# Altium integrated library CWX813-025.0M.IntLib: 1 symbol
Pins are listed as number, name and electrical type; pins without a type are passive.

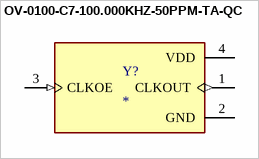
[diagram p0: symbol OV-0100-C7-100.000KHZ-50PPM-TA-QC]

## OV-0100-C7-100.000KHZ-50PPM-TA-QC
designator Y?
100 kHz XO (Standard) CMOS Oscillator 3V Enable/Disable 4-SMD, No Lead; MF: Micro Crystal; MP: OV-0100-C7-100.000KHZ-50PPM-TA-QC; SnapEDA_Link: https://www.snapeda.com/parts/OV-0100-C7-100.000KHZ-50PPM-TA-QC/Micro+Crystal/view-part/?ref=snap; Package: None; Value: *; Check_prices: https://www.snapeda.com/parts/OV-0100-C7-100.000KHZ-50PPM-TA-QC/Micro+Crystal/view-part/?ref=eda
footprint OSC_OV-0100-C7-100.000KHZ-50PPM-TA-QC
pins: 1 CLKOUT (out), 2 GND (power), 3 CLKOE (in), 4 VDD (power)